# Altium footprint library SparkFun-Sensors.PCBLIB: 104 footprints (part 1 of 7)
Each footprint in its own frame and in the unit in brackets; x right, y up, seen from the top. Pads: shape width x height; smd on the part's side, far side on the other; paste and mask are expansions set on the pad; w line width, h text height; cw(c..) or ccw(c..) is an arc to the next point about the centre after c.
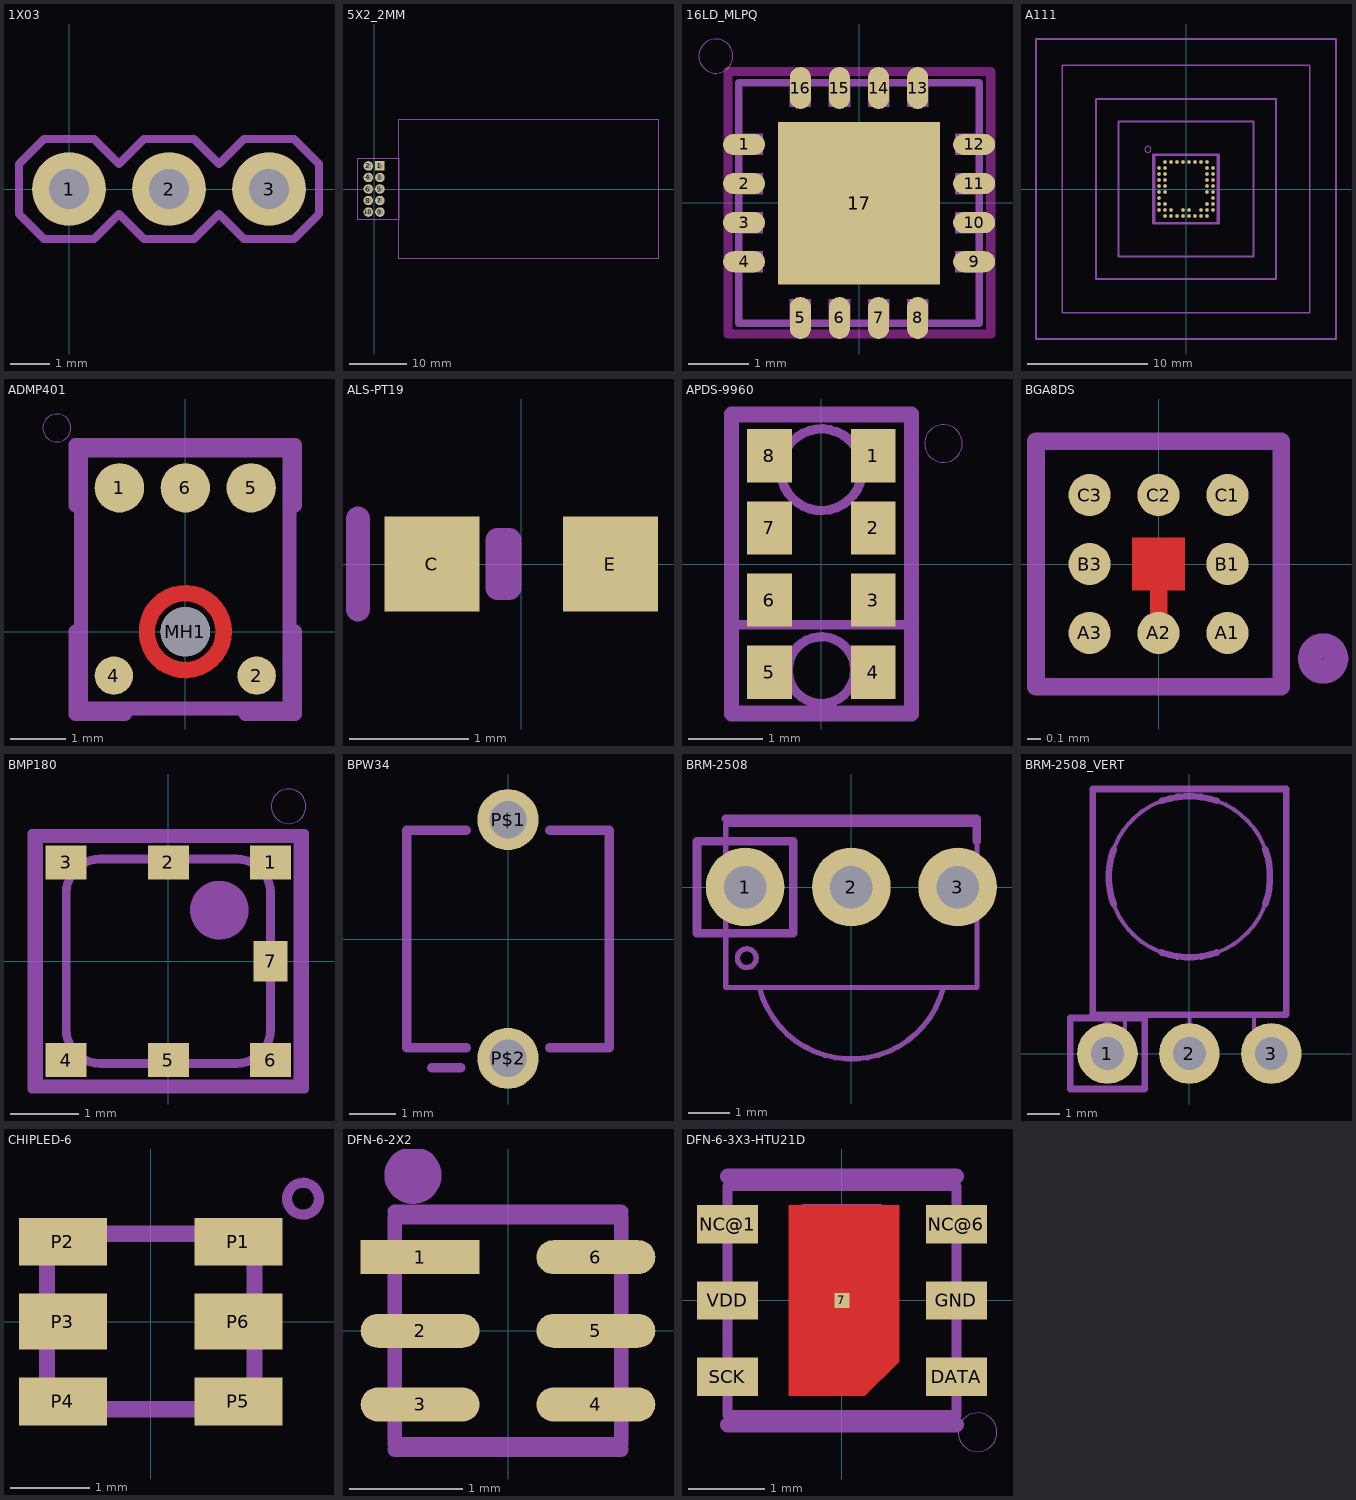
[diagram p0: the footprints below, top view; thin cyan lines are the x and y axes]

## 1X03 [mil]
pads (3):
  round 74 hole 40: 1(0,0) 2(100,0) 3(200,0)
tDocu:
  region: 190,-10 190,10 210,10 210,-10
  region: 90,-10 90,10 110,10 110,-10
  region: -10,-10 -10,10 10,10 10,-10
tPlace:
  lines w8: -50,-25 -50,25 -25,50 25,50 50,25 75,50 125,50 150,25 175,50 225,50 250,25 250,-25 225,-50 175,-50 150,-25 125,-50 75,-50 50,-25 25,-50 -25,-50 -50,-25

## 5X2_2MM [mil]
pads (10):
  rect 65x65 / inner round 60.05 / far side rect 65x65 hole 40: 1(39.37,157.48)
  round 65 hole 40: 2(-39.37,157.48) 3(39.37,78.74) 4(-39.37,78.74) 5(39.37,0) 6(-39.37,0) 7(39.37,-78.74) 8(-39.37,-78.74) 9(39.37,-157.48) 10(-39.37,-157.48)
tDocu:
  lines w6: -110,-210 -110,210 170,210 170,-210 -110,-210 ; 170,-475 170,475 1940,475 1940,-475 170,-475

## 16LD_MLPQ [mm]
pads (17):
  rrect100% 0.7x0.35 smd paste+0 mask+0: 1(-1.919,0.969) 2(-1.919,0.319) 3(-1.919,-0.332) 4(-1.919,-0.982) 9(1.908,-0.982) 10(1.908,-0.332) 11(1.908,0.319) 12(1.908,0.969)
  rrect100% 0.35x0.7 smd paste+0 mask+0: 5(-0.982,-1.917) 6(-0.332,-1.917) 7(0.319,-1.917) 8(0.969,-1.917) 13(0.969,1.907) 14(0.319,1.907) 15(-0.332,1.907) 16(-0.982,1.907)
  rect 2.7x2.7 smd paste+0: 17(-0.007,-0.007)
Top keep-out:
  lines w0.152: -2.184,-2.184 -2.184,2.184 2.184,2.184 2.184,-2.184 -2.184,-2.184
Top Paste:
  region: -0.9,-0.9 -0.9,-0.1 -0.1,-0.1 -0.1,-0.9
  region: 0.1,-0.9 0.1,-0.1 0.9,-0.1 0.9,-0.9
  region: 0.1,0.1 0.1,0.9 0.9,0.9 0.9,0.1
  region: -0.9,0.1 -0.9,0.9 -0.1,0.9 -0.1,0.1
  lines w0.26: -2.098,-0.982 -1.748,-0.982 ; -2.098,-0.332 -1.748,-0.332 ; -2.098,0.319 -1.748,0.319 ; -2.098,0.969 -1.748,0.969 ; -0.982,-2.091 -0.982,-1.741 ; -0.982,1.734 -0.982,2.084 ; -0.332,-2.091 -0.332,-1.741 ; -0.332,1.734 -0.332,2.084 ; 0.319,-2.091 0.319,-1.741 ; 0.319,1.734 0.319,2.084 ; 0.969,-2.091 0.969,-1.741 ; 0.969,1.734 0.969,2.084 ; 1.727,-0.982 2.077,-0.982 ; 1.727,-0.332 2.077,-0.332 ; 1.727,0.319 2.077,0.319 ; 1.727,0.969 2.077,0.969
Top Solder:
  lines w0.35: -2.097,-0.982 -1.747,-0.982 ; -2.097,0.319 -1.747,0.319 ; -2.097,0.969 -1.747,0.969 ; -2.094,-0.332 -1.745,-0.332 ; -0.983,-2.091 -0.983,-1.741 ; -0.982,1.732 -0.982,2.082 ; -0.332,-2.091 -0.332,-1.741 ; -0.332,1.732 -0.332,2.082 ; 0.318,-2.091 0.318,-1.741 ; 0.319,1.732 0.319,2.082 ; 0.97,-2.091 0.97,-1.741 ; 0.969,1.732 0.969,2.082 ; 1.733,-0.982 2.083,-0.982 ; 1.733,0.319 2.083,0.319 ; 1.733,0.969 2.083,0.969 ; 1.735,-0.332 2.085,-0.332
tDocu:
  region: -2.007,-1.157 -2.007,-0.807 -1.607,-0.807 -1.607,-1.157
  region: -2.007,-0.506 -2.007,-0.157 -1.607,-0.157 -1.607,-0.506
  region: -2.007,0.144 -2.007,0.494 -1.607,0.494 -1.607,0.144
  region: -2.007,0.793 -2.007,1.144 -1.607,1.144 -1.607,0.793
  region: 1.593,-1.157 1.593,-0.807 1.993,-0.807 1.993,-1.157
  region: 1.593,-0.506 1.593,-0.157 1.993,-0.157 1.993,-0.506
  region: 1.593,0.144 1.593,0.494 1.993,0.494 1.993,0.144
  region: 1.593,0.793 1.593,1.144 1.993,1.144 1.993,0.793
  region: 1.143,-2.007 0.793,-2.007 0.793,-1.607 1.143,-1.607
  region: 0.493,-2.007 0.143,-2.007 0.143,-1.607 0.493,-1.607
  region: -0.157,-2.007 -0.507,-2.007 -0.507,-1.607 -0.157,-1.607
  region: -0.807,-2.007 -1.157,-2.007 -1.157,-1.607 -0.807,-1.607
  region: 1.143,1.593 0.793,1.593 0.793,1.994 1.143,1.994
  region: 0.493,1.593 0.143,1.593 0.143,1.994 0.493,1.994
  region: -0.157,1.593 -0.507,1.593 -0.507,1.994 -0.157,1.994
  region: -0.807,1.593 -1.157,1.593 -1.157,1.994 -0.807,1.994
  lines w0.127: -2.007,-2.007 1.993,-2.007 1.993,1.993 -2.007,1.993 -2.007,-2.007
tPlace:
  circle w0: c-2.388,2.438 r0.284

## A111 [mm]
pads (50):
  rrect100% 0.3x0.3 smd: A2(-1.75,2.25) A3(-1.25,2.25) A4(-0.75,2.25) A5(-0.25,2.25) A6(0.25,2.25) A7(0.75,2.25) A8(1.25,2.25) A9(1.75,2.25) B1(-2.25,1.75) B2(-1.75,1.75) B9(1.75,1.75) B10(2.25,1.75) C1(-2.25,1.25) C2(-1.75,1.25) C9(1.75,1.25) C10(2.25,1.25) D1(-2.25,0.75) D2(-1.75,0.75) D9(1.75,0.75) D10(2.25,0.75) E1(-2.25,0.25) E2(-1.75,0.25) E9(1.75,0.25) E10(2.25,0.25) F1(-2.25,-0.25) F2(-1.75,-0.25) F9(1.75,-0.25) F10(2.25,-0.25) G1(-2.25,-0.75) G10(2.25,-0.75) H1(-2.25,-1.25) H2(-1.75,-1.25) H9(1.75,-1.25) H10(2.25,-1.25) J1(-2.25,-1.75) J2(-1.75,-1.75) J3(-1.25,-1.75) J5(-0.25,-1.75) J6(0.25,-1.75) J8(1.25,-1.75) J9(1.75,-1.75) J10(2.25,-1.75) K2(-1.75,-2.25) K3(-1.25,-2.25) K4(-0.75,-2.25) K5(-0.25,-2.25) K6(0.25,-2.25) K7(0.75,-2.25) K8(1.25,-2.25) K9(1.75,-2.25)
tDocu:
  lines w0.003: -2.6,-2.75 -2.6,2.75 2.6,2.75 2.6,-2.75 -2.6,-2.75
tPlace:
  circle w0: c-3.175,3.302 r0.254
  lines w0.203: -2.727,-2.877 -2.727,2.877 2.727,2.877 2.727,-2.877 -2.727,-2.877
Reference:
  lines w0.152: -12.5,-12.5 -12.5,12.5 12.5,12.5 12.5,-12.5 -12.5,-12.5 ; -10.308,-10.308 -10.308,10.308 10.308,10.308 10.308,-10.308 -10.308,-10.308 ; -7.5,-7.5 -7.5,7.5 7.5,7.5 7.5,-7.5 -7.5,-7.5 ; -5.635,-5.635 -5.635,5.635 5.635,5.635 5.635,-5.635 -5.635,-5.635
  text "0dB" at 0,12.6 h0.94
  text "-0.2dB" at 0,10.4 h0.94
  text "-0.4dB" at 0,7.6 h0.94
  text "-2.2dB" at 0,5.7 h0.94

## ADMP401 [mm]
pads (6):
  rrect100% 0.9x0.9 smd: 1(-1.2,2.62) 5(1.2,2.62) 6(0,2.62)
  rrect100% 0.7x0.7 smd: 2(1.3,-0.8) 4(-1.3,-0.8)
  round 0.9 hole 0.9 unplated: MH1(0,0)
Top:
  circle w0.3: c0,0 r0.7
Top Paste:
  lines w0.3: -0.68,-0.185 ccw(c0.019,0.026) -0.185,-0.675 ; -0.675,0.185 cw(c0.026,-0.019) -0.185,0.68 ; 0.185,-0.68 ccw(c-0.026,0.019) 0.675,-0.185 ; 0.185,0.675 cw(c-0.019,-0.026) 0.68,0.185
Top Solder:
  circle w0.5: c0,0 r0.7
tDocu:
  lines w0.254: -1.9,-1.4 -1.9,3.3 1.9,3.3 1.9,-1.4 -1.9,-1.4
tPlace:
  circle w0: c-2.34,3.71 r0.254
  lines w0.254: -2,0 -2,-1.5 -1.1,-1.5 ; -2,2.3 -2,3.4 2,3.4 2,2.3 ; 1.1,-1.5 2,-1.5 2,0

## ALS-PT19 [mil]
pads (2):
  rect 31.5x31.5 smd: C(-29.53,0) E(29.53,0)
tDocu:
  lines w8: -7.87,-7.87 -7.87,7.87 -3.94,7.87 -3.94,-7.87 -7.87,-7.87
tPlace:
  lines w8: -54,-15 -54,15

## APDS-9960 [mm]
pads (8):
  rect 0.6x0.72 smd: 1(0.7,1.455) 2(0.7,0.485) 3(0.7,-0.485) 4(0.7,-1.455) 5(-0.7,-1.455) 6(-0.7,-0.485) 7(-0.7,0.485) 8(-0.7,1.455)
tDocu:
  circle w0.127: c0,1.27 r0.55
  circle w0.127: c0,-1.43 r0.45
  lines w0.127: -1.18,-0.82 -1.18,1.97 1.18,1.97 1.18,-0.82 ; -1.18,-0.82 -1.18,-1.97 1.18,-1.97 1.18,-0.82 ; -1.18,-0.82 1.18,-0.82
tPlace:
  circle w0: c1.644,1.622 r0.254
  lines w0.203: -1.21,-2.02 1.21,-2.02 1.21,2.02 -1.21,2.02 -1.21,-2.02

## BARCODE_READER_MODULE [mm]

## BGA8DS [mil]
pads (8):
  rrect100% 12x12 smd: A1(19.7,-19.7) A2(0,-19.7) A3(-19.7,-19.7) B1(19.7,0) B3(-19.7,0) C1(19.7,19.7) C2(0,19.7) C3(-19.7,19.7)
Top:
  region: -7.5,-7.5 -7.5,7.5 7.5,7.5 7.5,-7.5
  lines w5: 0,-19.7 0,0
tPlace:
  circle w7: c47,-27 r3.7
  lines w5: -35,-35 35,-35 35,35 -35,35 -35,-35

## BMP180 [mm]
pads (7):
  rect 0.6x0.5 smd: 1(1.5,1.45) 2(0,1.45) 3(-1.5,1.45) 4(-1.5,-1.45) 5(0,-1.45) 6(1.5,-1.45)
  rect 0.5x0.6 smd: 7(1.5,0)
tDocu:
  circle w0.61: c0.75,0.75 r0.125
  lines w0.127: -1.9,-1.8 -1.9,1.8 1.9,1.8 1.9,-1.8 -1.9,-1.8 ; -1.5,-1 -1.5,1 cw(c-1,1) -1,1.5 1,1.5 cw(c1,1) 1.5,1 1.5,-1 cw(c1,-1) 1,-1.5 -1,-1.5 cw(c-1,-1) -1.5,-1
tPlace:
  circle w0: c1.766,2.274 r0.254
  lines w0.127: -2,-1.875 -2,1.875 2,1.875 2,-1.875 -2,-1.875

## BPW34 [mil]
pads (2):
  round 51.5 hole 31.5: P$1(0,100.39) P$2(0,-100.39)
tPlace:
  lines w8: -64.21,-108.27 -39.53,-108.27 ; -34.96,-91.34 -85.04,-91.34 -85.04,91.34 -34.96,91.34 ; 34.96,-91.34 85.04,-91.34 85.04,91.34 34.96,91.34
  text "A" at 4,48.37 h34
  text "C" at 4,-47.37 h34

## BRM-2508 [mil]
pads (3):
  round 74 hole 40: 1(-100,0) 2(0,0) 3(100,0)
tDocu:
  circle w5: c-98.43,-66.93 r8.8
  region: 90,-10 90,10 110,10 110,-10
  region: -10,-10 -10,10 10,10 10,-10
  region: -110,-10 -110,10 -90,10 -90,-10
  lines w5: -86.61,-94.49 -118.11,-94.49 -118.11,59.06 118.11,59.06 118.11,-94.49 86.61,-94.49 ; -86.61,-94.49 86.61,-94.49 ; -86.61,-94.49 ccw(c0,-72.41) 86.61,-94.49
tPlace:
  lines w8: -118.11,64.06 118.11,64.06 118.11,43.31 ; -145.28,-43.31 -54.72,-43.31 -54.72,43.31 -145.28,43.31 -145.28,-43.31

## BRM-2508_VERT [mil]
pads (3):
  round 74 hole 40: 1(-100,0) 2(0,0) 3(100,0)
tDocu:
  circle w5: c-100,27.56 r8.8
  circle w5: c0,215.75 r98.43
  region: 90,-10 90,10 110,10 110,-10
  region: -10,-10 -10,10 10,10 10,-10
  region: -110,-10 -110,10 -90,10 -90,-10
  lines w5: -98.43,0 -78.74,0 -78.74,47.24 ; 0,0 0,47.24 ; 78.74,47.24 78.74,0 98.43,0 ; -118.11,48.43 118.11,48.43 118.11,322.05 -118.11,322.05 -118.11,48.43
tPlace:
  lines w8: -118.11,47.24 118.11,47.24 ; -118.11,48.43 -118.11,322.05 ; -118.11,322.83 118.11,322.83 ; -92.49,182.08 cw(c0,215.75) -92.49,249.41 ; -33.66,123.26 ccw(c0,215.74) 33.66,123.26 ; -33.66,308.24 cw(c0,215.76) 33.66,308.24 ; 92.49,182.08 ccw(c0,215.75) 92.49,249.41 ; 118.11,48.43 118.11,322.05 ; -145.28,-43.31 -54.72,-43.31 -54.72,43.31 -145.28,43.31 -145.28,-43.31

## CHIPLED-6 [mm]
pads (6):
  rect 1.1x0.6 smd: P1(1.1,1) P2(-1.1,1) P4(-1.1,-1) P5(1.1,-1)
  rect 1.1x0.7 smd: P3(-1.1,0) P6(1.1,0)
tPlace:
  circle w0.127: c1.91,1.54 r0.2
  lines w0.203: -1.3,-1.1 1.3,-1.1 1.3,1.1 -1.3,1.1 -1.3,-1.1

## DFN-6-2X2 [mm]
pads (6):
  rect 1.05x0.3 smd: 1(-0.775,0.65)
  rrect100% 1.05x0.3 smd: 2(-0.775,0) 3(-0.775,-0.65) 4(0.775,-0.65) 5(0.775,0) 6(0.775,0.65)
tDocu:
  lines w0.127: -1,-1 -1,1 1,1 1,-1 -1,-1
tPlace:
  circle w0.305: c-0.838,1.372 r0.1
  lines w0.127: -1,-1.051 1,-1.051 ; -1,1.051 1,1.051

## DFN-6-3X3-HTU21D [mil]
pads (7):
  rect 7.87x7.87 smd: 7(0,0)
  rect 31.5x19.69 smd: DATA(59.06,-39.37) GND(59.06,0) NC@1(-59.06,39.37) NC@6(59.06,39.37) SCK(-59.06,-39.37) VDD(-59.06,0)
Top:
  region: -27.56,49.21 29.53,49.21 29.53,-31.5 11.81,-49.21 -27.56,-49.21
Top Paste:
  region: -21.65,41.34 21.65,41.34 21.65,-25.59 3.94,-43.31 -21.65,-43.31
Top Solder:
  region: -30.51,52.17 -30.51,-51.18 14.76,-51.18 32.48,-33.46 32.48,52.17
tDocu:
  lines w5: -59.06,-59.06 59.06,-59.06 59.06,59.06 -59.06,59.06 -59.06,-59.06 ; -19.69,19.69 19.69,19.69 19.69,47.24 -19.69,47.24 -19.69,19.69
tPlace:
  circle w0: c70,-68 r10
  lines w8: -59.06,-64.06 59.06,-64.06 ; -59.06,64.06 59.06,64.06